# Altium footprint library ANT.PcbLib: 4 footprints
Each footprint in its own frame and in the unit in brackets; x right, y up, seen from the top. Pads: shape width x height; smd on the part's side, far side on the other; paste and mask are expansions set on the pad; w line width, h text height; cw(c..) or ccw(c..) is an arc to the next point about the centre after c.
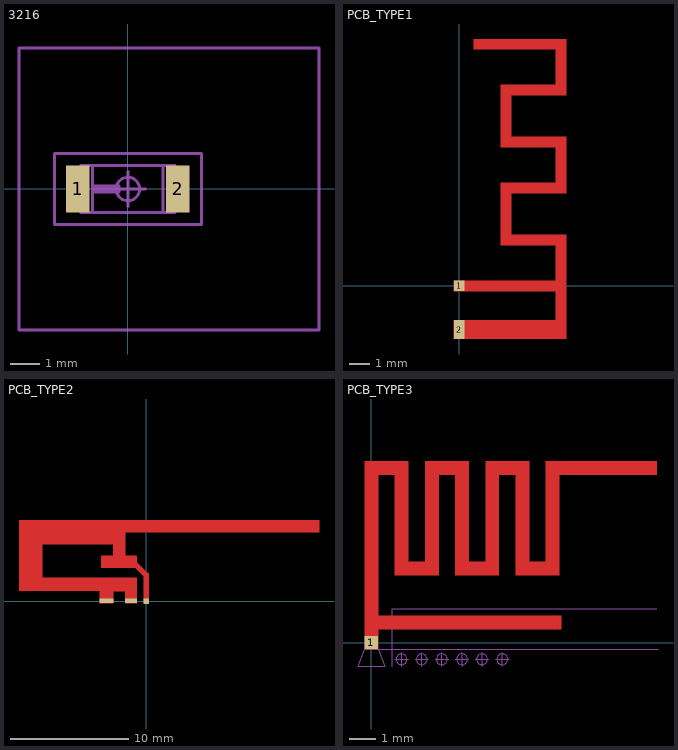
[diagram p0: the footprints below, top view; thin cyan lines are the x and y axes]

## 3216 [mm]
pads (2):
  rect 0.8x1.6 smd: 1(-1.7,0) 2(1.7,0)
Mechanical 1:
  lines w0.1: -3.7,-4.8 -3.7,4.8 6.5,4.8 6.5,-4.8 -3.7,-4.8
Mechanical 14:
  lines w0.1: -1.2,-0.8 -1.2,0.8 ; -1.2,-0.1 -0.3,-0.1 -0.3,0.1 -1.2,0.1 ; -1.2,0 -0.3,0 ; 1.2,-0.8 1.2,0.8 ; -1.6,-0.8 -1.6,0.8 1.6,0.8 1.6,-0.8 -1.6,-0.8
  text ".Designator" at -0.1,-0.4 h0.5
Mechanical 15:
  circle w0.1: c0,0 r0.4
  lines w0.1: -0.6,0 0.6,0 ; 0,-0.6 0,0.6 ; -2.5,-1.2 2.5,-1.2 2.5,1.2 -2.5,1.2 -2.5,-1.2
3D body "2450AT18A100E.STEP": height 1.3, standoff 0, extent -1.6,-0.8 1.6,0.8

## PCB_TYPE1 [mm]
pads (2):
  rect 0.5x0.5 smd: 1(0,0)
  rect 0.5x0.9 smd: 2(0,-2.1)
Top Layer:
  region: -0.25,-2.55 5.15,-2.55 5.15,2.45 2.51,2.45 2.51,4.45 5.15,4.45 5.15,7.15 2.51,7.15 2.51,9.15 5.15,9.15 5.15,11.85 0.71,11.85 0.71,11.35 4.65,11.35 4.65,9.65 2.01,9.65 2.01,6.65 4.65,6.65 4.65,4.95 2.01,4.95 2.01,1.95 4.65,1.95 4.65,0.25 -0.25,0.25 -0.25,-0.25 4.65,-0.25 4.65,-1.65 -0.25,-1.65

## PCB_TYPE2 [mm]
pads (3):
  rect 0.46x0.46 smd: 1(0,0)
  rect 1.148x0.4 smd: 2(-3.362,0.027)
  rect 1.001x0.4 smd: 2(-1.287,0.027)
Top Layer:
  region: -0.787,-0.173 -1.788,-0.173 -1.788,0.828 -2.789,0.828 -2.789,-0.173 -3.937,-0.173 -3.937,0.868 -10.77,0.868 -10.77,6.837 14.63,6.837 14.63,5.826 -1.788,5.826 -1.788,3.828 -0.787,3.828 -0.787,2.827 -3.787,2.827 -3.787,3.828 -2.789,3.828 -2.789,4.828 -8.788,4.828 -8.788,1.961 -0.787,1.961
  lines w0.46: -1.148,3.37 0,2.222 0,0

## PCB_TYPE3 [mil]
pads (1):
  rect 20x20 smd: 1(0,0)
Top Layer:
  region: -10,-10 10,-10 10,20 283,20 283,40 10,40 10,250 35,250 35,100 100,100 100,250 125,250.01 125,100 190,100 190.01,250 215,250 215,100 280,100 280,250 425,250 425,270.03 260,270 260,120 235,120 235,270 170.01,270.01 170,120 145,120 144.99,270 80,270 80,120 55,120 55,270 -10,270
Mechanical 14:
  circle w0.98: c195,-25 r8.06
  circle w0.98: c165,-25 r8.06
  circle w0.98: c135,-25 r8.06
  circle w0.98: c105,-25 r8.06
  circle w0.98: c75,-25 r8.06
  circle w0.98: c45,-25 r8.06
  circle w0.98: c273,30 r8.06
  lines w1: 10,-10 20,-35 -20,-35 -10,-10 427,-10 ; 31,-36 31,50 425,50 ; 35,-25 55,-25 ; 45,-35 45,-15 ; 65,-25 85,-25 ; 75,-35 75,-15 ; 95,-25 115,-25 ; 105,-35 105,-15 ; 125,-25 145,-25 ; 135,-35 135,-15 ; 155,-25 175,-25 ; 165,-35 165,-15 ; 185,-25 205,-25 ; 195,-35 195,-15 ; 263,30 283,30 ; 273,20 273,40
  text "50 Ohm" at -18,-46 h11.81
  text "Feed" at -11,-31 h11.81